# Altium schematic symbol library SRP7050WA-680M.SchLib: 1 symbol
Pins are listed as number, name and electrical type; pins without a type are passive.

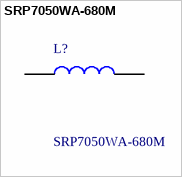
[diagram p0: symbol SRP7050WA-680M]

## SRP7050WA-680M
designator L?
Ind,7.9x7.3x5.2mm,68uH+/-20%,2.7A,shd; Manufacturer_Name: Bourns; Geometry.Height: 5.4mm; Mouser Part Number: 652-SRP7050WA-680M; Mouser Price/Stock: https://www.mouser.co.uk/ProductDetail/Bourns/SRP7050WA-680M?qs=9vOqFld9vZWgqOKAryepGA%3D%3D; Manufacturer_Part_Number: SRP7050WA-680M; Datasheet Link: https://g.componentsearchengine.com/Datasheets/0/17601811.pdf
footprint INDPM7973X540N
pins: 1, 2